# Altium schematic symbol library TL084.SchLib: 1 symbol
Pins are listed as number, name and electrical type; pins without a type are passive.

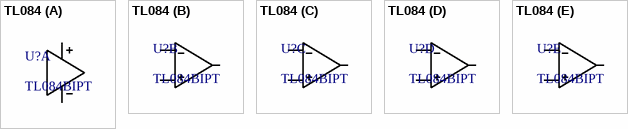
[diagram p0: symbol TL084]

## TL084
designator U?, comment TL084BIPT
J-FET Amplifier 4 Circuit - 14-TSSOP; Type: TL084BIPT
footprint TSSOP14_0.65_C (TSOP, 14-Leads, Body 5.00x4.40mm, Pitch 0.65mm, IPC High Density)
part A pins: 4 VCC+, 11 VCC-
part B pins: 1 OUT1, 2 IN1-, 3 IN1+
part C pins: 5 IN2+, 6 IN2-, 7 OUT2
part D pins: 8 OUT3, 9 IN3-, 10 IN3+
part E pins: 12 IN4+, 13 IN4-, 14 OUT4